# EAGLE library part LB1848MC (library PocketCube)
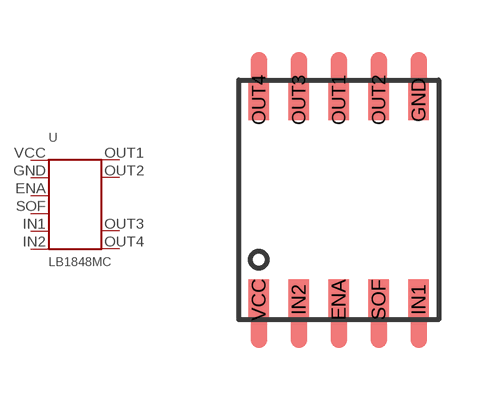
[diagram p20: symbol with the pads of LB1848MC; footprint LB1848MC]

Designator prefix -

## LB1848MC  [LB1848MC]
ENA  ENA
GND  GND
IN1  IN1
IN2  IN2
OUT1  OUT1
OUT2  OUT2
OUT3  OUT3
OUT4  OUT4
SOF  SOF
VCC  VCC

## Footprint LB1848MC (pad centres in mm)
smd 0.508 x 1.016: ENA 2,0; GND 4,5; IN1 4,0; IN2 1,0; OUT1 2,5; OUT2 3,5; OUT3 1,5; OUT4 0,5; SOF 3,0; VCC 0,0